# Altium schematic symbol library LBR2012T100K.SchLib: 1 symbol
Pins are listed as number, name and electrical type; pins without a type are passive.

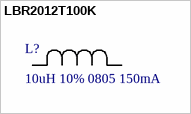
[diagram p0: symbol LBR2012T100K]

## LBR2012T100K
designator L?, comment 10uH 10% 0805 150mA
Fixed Inductors 0805 10uH 468mOhms +/-10%Tol 150mA; Manufacturer_Part_Number: LBR2012T100K; Vendor: TAIYO YUDEN; Built_By: EMA_UL_Team; Type: DEV; C: Copyright (C) 2015 Accelerated Designs. All rights reserved; RefDes: RefDes; Value: Value
footprint IND_TAIYO_LBR201
pins: 1, 2